# Altium footprint library My_Footprint_Lib.PcbLib: 54 footprints (part 4 of 4)
Each footprint in its own frame and in the unit in brackets; x right, y up, seen from the top. Pads: shape width x height; smd on the part's side, far side on the other; paste and mask are expansions set on the pad; w line width, h text height; cw(c..) or ccw(c..) is an arc to the next point about the centre after c.
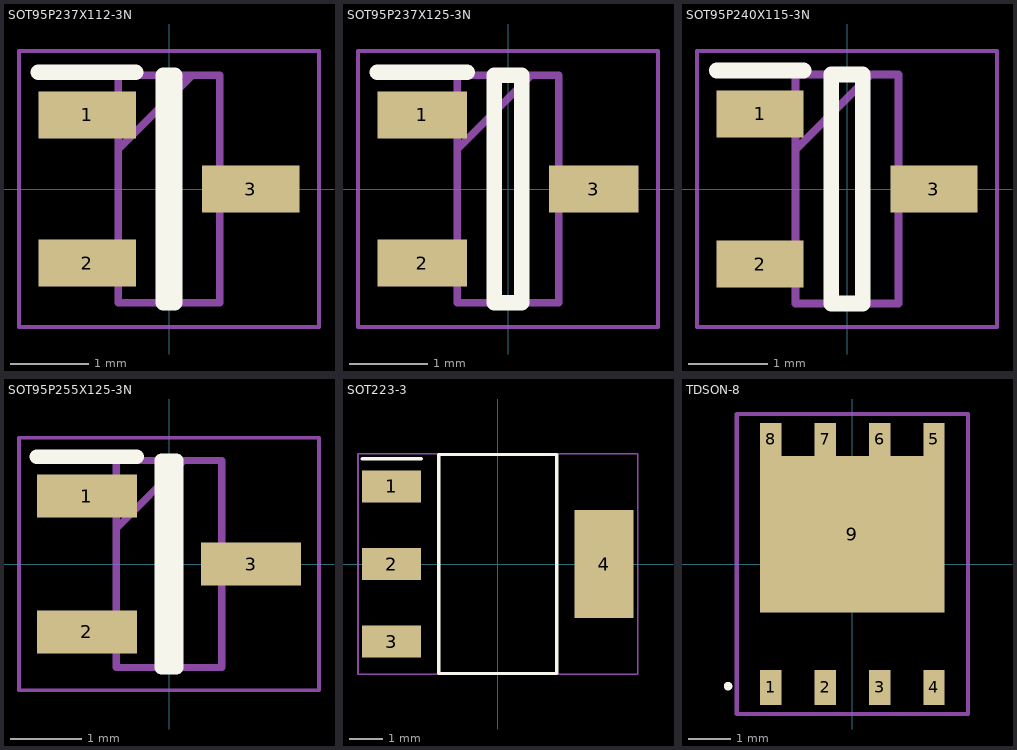
[diagram p3: the footprints below, top view; thin cyan lines are the x and y axes]

## SOT95P237X112-3N [mm]
pads (3):
  rect 1.25x0.6 smd: 1(-1.05,0.95) 2(-1.05,-0.95) 3(1.05,0)
Top Overlay:
  lines w0.2: -1.675,1.5 -0.425,1.5 ; -0.075,-1.46 0.075,-1.46 0.075,1.46 -0.075,1.46 -0.075,-1.46
Mechanical 13:
  lines w0.1: -0.65,0.51 0.3,1.46 ; -0.65,-1.46 0.65,-1.46 0.65,1.46 -0.65,1.46 -0.65,-1.46
Mechanical 15:
  lines w0.05: -1.925,-1.77 1.925,-1.77 1.925,1.77 -1.925,1.77 -1.925,-1.77
3D body "TL431CDBZR.stp": height 1, standoff 0, extent -1.27,-1.46 1.27,1.46

## SOT95P237X125-3N [mm]
pads (3):
  rect 1.15x0.6 smd: 1(-1.1,0.95) 2(-1.1,-0.95) 3(1.1,0)
Top Overlay:
  lines w0.2: -1.675,1.5 -0.525,1.5 ; -0.175,-1.46 0.175,-1.46 0.175,1.46 -0.175,1.46 -0.175,-1.46
Mechanical 13:
  lines w0.1: -0.65,0.51 0.3,1.46 ; -0.65,-1.46 0.65,-1.46 0.65,1.46 -0.65,1.46 -0.65,-1.46
Mechanical 15:
  lines w0.05: -1.925,-1.77 1.925,-1.77 1.925,1.77 -1.925,1.77 -1.925,-1.77
3D body "BAT54SH-TP.stp": height 1.07, standoff 0, extent -1.25,-1.503 1.25,1.497

## SOT95P240X115-3N [mm]
pads (3):
  rect 1.1x0.6 smd: 1(-1.1,0.95) 2(-1.1,-0.95) 3(1.1,0)
Top Overlay:
  lines w0.2: -1.65,1.5 -0.55,1.5 ; -0.2,-1.45 -0.2,1.45 0.2,1.45 0.2,-1.45 -0.2,-1.45
Mechanical 13:
  lines w0.1: -0.65,0.5 0.3,1.45 ; -0.65,-1.45 -0.65,1.45 0.65,1.45 0.65,-1.45 -0.65,-1.45
Mechanical 15:
  lines w0.05: -1.9,-1.75 -1.9,1.75 1.9,1.75 1.9,-1.75 -1.9,-1.75
3D body "BC847-T.stp": height 1.15, standoff 0, extent -1.2,-1.45 1.2,1.45

## SOT95P255X125-3N [mm]
pads (3):
  rect 1.4x0.6 smd: 1(-1.15,0.95) 2(-1.15,-0.95) 3(1.15,0)
Top Overlay:
  lines w0.2: -1.85,1.5 -0.45,1.5 ; -0.1,-1.448 -0.1,1.448 0.1,1.448 0.1,-1.448 -0.1,-1.448
Mechanical 13:
  lines w0.1: -0.738,0.498 0.212,1.448 ; -0.738,-1.448 -0.738,1.448 0.738,1.448 0.738,-1.448 -0.738,-1.448
Mechanical 15:
  lines w0.05: -2.1,-1.77 -2.1,1.77 2.1,1.77 2.1,-1.77 -2.1,-1.77
3D body "ESDCAN01-2BLY.stp": height 1.25, standoff 0, extent -1.275,-1.448 1.275,1.448

## SOT223-3 [mm]
pads (4):
  rect 1.75x0.95 smd: 1(-3.15,2.3) 2(-3.15,0) 3(-3.15,-2.3)
  rect 1.75x3.2 smd: 4(3.15,0)
Top Overlay:
  lines w0.1: -4.025,3.125 -2.275,3.125 ; -1.75,-3.25 1.75,-3.25 1.75,3.25 -1.75,3.25 -1.75,-3.25
Mechanical 15:
  lines w0.05: -4.15,-3.275 4.15,-3.275 4.15,3.275 -4.15,3.275 -4.15,-3.275
3D body "SPX1117M3-L-5-0_TR.stp": height 1.7, standoff 0, extent -3.5,-3.25 3.5,3.25

## TDSON-8 [mm]
pads (9):
  rect 0.5x0.815 smd: 1(-1.905,-2.88) 2(-0.635,-2.88) 3(0.635,-2.88) 4(1.905,-2.88)
  rect 0.5x0.765 smd: 5(1.905,2.908) 6(0.635,2.908) 7(-0.635,2.908) 8(-1.905,2.908)
  rect 4.31x3.655 smd: 9(0,0.698)
Top Overlay:
  lines w0.1: -2.9,-2.9 ccw(c-2.9,-2.85) -2.9,-2.8 ccw(c-2.9,-2.85) -2.9,-2.9
Mechanical 15:
  lines w0.1: -2.7,-3.5 -2.7,3.5 2.7,3.5 2.7,-3.5 -2.7,-3.5
3D body "ISC073N12LM6ATMA1.stp": height 1.3, standoff 0, extent -2.575,-3.237 2.575,3.24